# Altium schematic symbol library Transistor Symbols.SchLib: 24 symbols
Pins are listed as number, name and electrical type; pins without a type are passive.

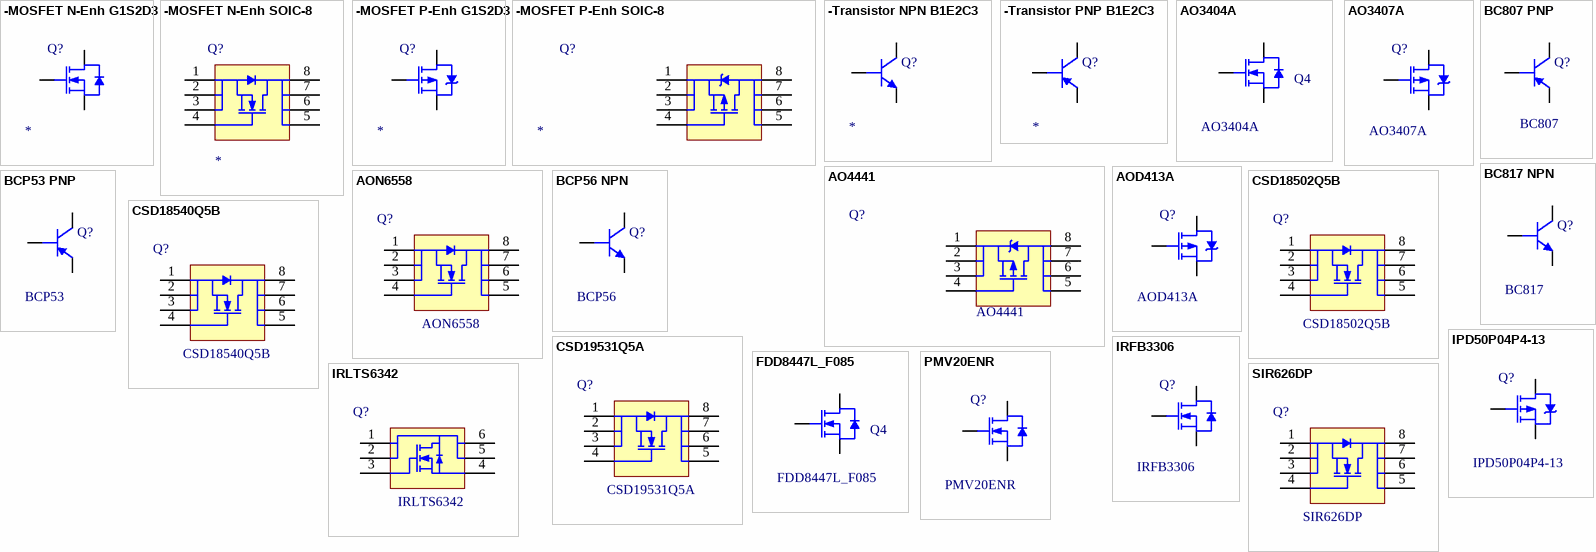
[diagram p0: symbols -MOSFET N-Enh G1S2D3 to SIR626DP]

## -MOSFET N-Enh G1S2D3
designator Q?, comment MOSFET N-Enh  (value not drawn)
N Channel Enhancement G1S2D3; Value: *
pins: 1 G, 2 S, 3 D

## -MOSFET N-Enh SOIC-8
designator Q?, comment MOSFET N-Enh  (value not drawn)
N Channel Enhancement SOIC-8; Value: *
footprint SOIC127P600X175-8N (SOIC, 8-Leads, Body 4.95x3.90mm, Pitch 1.27mm, IPC Medium Density)
pins: 1 S, 2 S, 3 S, 4 G, 5 D, 6 D, 7 D, 8 D

## -MOSFET P-Enh G1S2D3
designator Q?, comment MOSFET P-Enh  (value not drawn)
P Channel Enhancement G1S2D3; Value: *
pins: 1 G, 2 S, 3 D

## -MOSFET P-Enh SOIC-8
designator Q?, comment MOSFET P-Enh  (value not drawn)
P Channel Enhancement SOIC-8; Value: *
footprint SOIC127P600X175-8N (SOIC, 8-Leads, Body 4.95x3.90mm, Pitch 1.27mm, IPC Medium Density)
pins: 1 S, 2 S, 3 S, 4 G, 5 D, 6 D, 7 D, 8 D

## -Transistor NPN B1E2C3
designator Q?
General Purpose Transistor, NPN, 3-Pin, B1E2C3; Value: *
footprint SOT23-3 (SOT23, 3-Leads, Body 2.90x2.35mm, Pitch 0.95mm, IPC Medium Density)
pins: 1 B, 2 E, 3 C

## -Transistor PNP B1E2C3
designator Q?
General Purpose Transistor, PNP, 3-Pin, B1E2C3; Value: *
footprint SOT23-3 (SOT23, 3-Leads, Body 2.90x2.35mm, Pitch 0.95mm, IPC Medium Density)
pins: 1 B, 2 E, 3 C

## AO3404A
designator Q4
30V, 5.8A, N-Channel Enhancement, SOT23; Supplier 1: Digi-Key; Supplier Part Number 1: 785-1004-1-ND; Value: AO3404A
footprint SOT23-3 (SOT23, 3-Leads, Body 2.90x2.35mm, Pitch 0.95mm, IPC Medium Density)
pins: 1 G, 2 S, 3 D

## AO3407A
designator Q?
-30V, -4A, P Channel Enhancement, SOT23; Supplier 1: Digi-Key; Supplier Part Number 1: 785-1006-1-ND; Value: AO3407A
footprint SOT23-3 (SOT23, 3-Leads, Body 2.90x2.35mm, Pitch 0.95mm, IPC Medium Density)
pins: 1 G, 2 S, 3 D

## AO4441
designator Q?, comment value AO4441  (hidden comment: MOSFET P-Enh)
60V, 4A, P Channel Enhancement, SOIC-8; Supplier 1: Digi-Key; Supplier Part Number 1: 785-1196-1-ND
footprint SOIC127P600X175-8N (SOIC, 8-Leads, Body 4.95x3.90mm, Pitch 1.27mm, IPC Medium Density)
pins: 1 S, 2 S, 3 S, 4 G, 5 D, 6 D, 7 D, 8 D

## AOD413A
designator Q?
-40V, -12A, P Channel Enhancement, DPAK; Supplier 1: Digi-Key; Supplier Part Number 1: 785-1218-1-ND; Value: AOD413A
footprint DPAK (TO-252) (D-PAK, 3-Pads, Body 6.21x6.73mm (max), IPC Medium Density)
pins: 1 G, 3 S, 4 D

## AON6558
designator Q?
30V, 30A, N Channel Enhancement; Supplier 1: Digi-Key; Supplier Part Number 1: 785-1670-1-ND; Value: AON6558
footprint 8-DFN-5x6 (DFN, 8-Leads, Body 5.9x4.9mm, Pitch 1.27mm)
pins: 1 S, 2 S, 3 S, 4 G, 5 D, 6 D, 7 D, 8 D

## BC807 PNP
designator Q?, comment value BC807  (hidden comment: Transistor PNP)
General Purpose Transistor, PNP, 3-Pin, B1E2C3; Supplier 1: Mouser; Supplier Part Number 1: 863-BC807-40LT1G
footprint SOT23-3 (SOT23, 3-Leads, Body 2.90x2.35mm, Pitch 0.95mm, IPC Medium Density)
pins: 1 B, 2 E, 3 C

## BC817 NPN
designator Q?, comment value BC817  (hidden comment: Transistor NPN)
General Purpose Transistor, NPN, 3-Pin, B1E2C3; Supplier 1: Mouser; Supplier Part Number 1: 863-BC817-40LT1G
footprint SOT23-3 (SOT23, 3-Leads, Body 2.90x2.35mm, Pitch 0.95mm, IPC Medium Density)
pins: 1 B, 2 E, 3 C

## BCP53 PNP
designator Q?, comment value BCP53  (hidden comment: Transistor PNP)
-80V, 1.5A, PNP Transistor; Supplier 1: Mouser; Supplier Part Number 1: 863-BCP53T1G
footprint SOT223-4 (SOT223, 4-Leads, Body 6.5x3.5mm, Pitch 2.3mm, Lead Span 7mm, IPC Medium Density)
pins: 1 B, 2 C, 3 E, 4 C

## BCP56 NPN
designator Q?, comment value BCP56  (hidden comment: Transistor PNP)
80V, 1A, NPN Transistor; Supplier 1: Mouser; Supplier Part Number 1: 863-BCP56T1G
footprint SOT223-4 (SOT223, 4-Leads, Body 6.5x3.5mm, Pitch 2.3mm, Lead Span 7mm, IPC Medium Density)
pins: 1 B, 2 C, 3 E, 4 C

## CSD18502Q5B
designator Q?
40V, 100A, N Channel Enhancement, DFN; Supplier 1: Mouser; Supplier 2: Mouser; Supplier Part Number 2: 595-CSD18502Q5B; Value: CSD18502Q5B
footprint 8-DFN-5x6 (DFN, 8-Leads, Body 5.9x4.9mm, Pitch 1.27mm)
pins: 1 S, 2 S, 3 S, 4 G, 5 D, 6 D, 7 D, 8 D

## CSD18540Q5B
designator Q?
60V, 50A, N Channel Enhancement, DFN; Supplier 1: Mouser; Supplier Part Number 1: 595-CSD18540Q5B; Value: CSD18540Q5B
footprint 8-DFN-5x6 (DFN, 8-Leads, Body 5.9x4.9mm, Pitch 1.27mm)
pins: 1 S, 2 S, 3 S, 4 G, 5 D, 6 D, 7 D, 8 D

## CSD19531Q5A
designator Q?
100V, 100A, N Channel Enhancement, DFN; Supplier 1: Mouser; Supplier Part Number 1: 595-CSD19531Q5A; Value: CSD19531Q5A
footprint 8-DFN-5x6 (DFN, 8-Leads, Body 5.9x4.9mm, Pitch 1.27mm)
pins: 1 S, 2 S, 3 S, 4 G, 5 D, 6 D, 7 D, 8 D

## FDD8447L_F085
designator Q4, comment value FDD8447L_F085  (hidden comment: MOSFET N-Enh)
40V, 50A, N-Channel Enhancement MOSFET; Supplier 1: Mouser; Supplier Part Number 1: 512-FDD8447L_F085
footprint DPAK (TO-252) (D-PAK, 3-Pads, Body 6.21x6.73mm (max), IPC Medium Density)
pins: 1 G, 3 S, 4 D

## IPD50P04P4-13
designator Q?, comment value IPD50P04P4-13  (hidden comment: MOSFET P-Enh)
-40V, -50A, P Channel Enhancement; Supplier 1: Mouser; Supplier Part Number 1: 726-IPD50P04P4-13
footprint DPAK (TO-252) (D-PAK, 3-Pads, Body 6.21x6.73mm (max), IPC Medium Density)
pins: 1 G, 3 S, 4 D

## IRFB3306
designator Q?, comment value IRFB3306  (hidden comment: MOSFET N-Enh)
60V, 110A, N Channel Enhancement
pins: 1 G, 2 S, 3 D

## IRLTS6342
designator Q?
30V, 8.3A, N Channel Enhancement; Supplier 1: Mouser; Supplier Part Number 1: 942-IRLTS6342TRPBF; Value: IRLTS6342
footprint SOT23-6 (SOT23, 6-Leads, Body 2.90x2.80mm, Pitch 0.95mm, IPC Medium Density)
pins: 1 D, 2 D, 3 G, 4 S, 5 D, 6 D

## PMV20ENR
designator Q?, comment value PMV20ENR  (hidden comment: MOSFET N-Enh)
30V, 7.6A, N Channel Enhancement MOSFET; Supplier 1: Mouser; Supplier Part Number 1: 771-PMV20ENR
footprint SOT23-3 (SOT23, 3-Leads, Body 2.90x2.35mm, Pitch 0.95mm, IPC Medium Density)
pins: 1 G, 2 S, 3 D

## SIR626DP
designator Q?
60V, 100A, N Channel Enhancement, DFN; Supplier 1: Mouser; Supplier Part Number 1: 78-SIR626DP-T1-RE3; Value: SIR626DP
footprint 8-DFN-5x6 (DFN, 8-Leads, Body 5.9x4.9mm, Pitch 1.27mm)
pins: 1 S, 2 S, 3 S, 4 G, 5 D, 6 D, 7 D, 8 D